# EAGLE library part MICROSDCARDWRITER (library Arduino-MITCH_Breakouts)
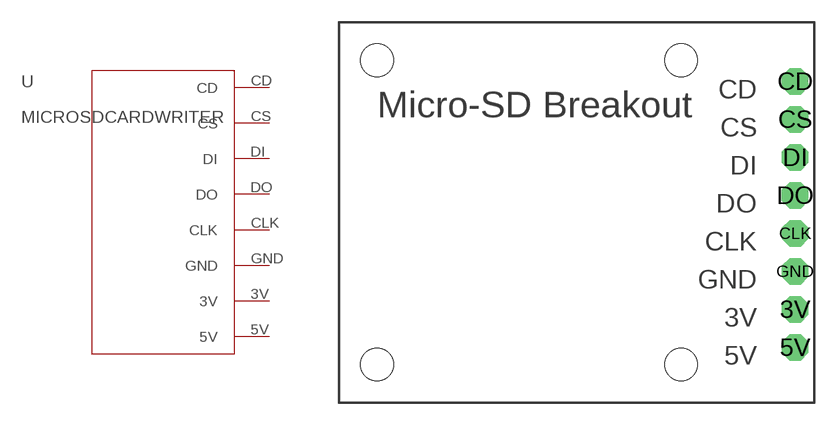
[diagram p4: symbol with the pads of MICROSDCARDWRITER; footprint MICROSDCARDWRITER]

Designator prefix -

## MICROSDCARDWRITER  [MICROSDCARDWRITER]
3V  3V
5V  5V
CD  CD
CLK  CLK
CS  CS
DI  DI
DO  DO
GND  GND

## Footprint MICROSDCARDWRITER (pad centres in mm)
drill 1.016 pad 1.778 octagon: 3V 30.48,6.223; 5V 30.48,3.683; CD 30.48,21.463; CLK 30.48,11.303; CS 30.48,18.923; DI 30.48,16.383; DO 30.48,13.843; GND 30.48,8.763
hole 2.2 at 22.86,22.86
hole 2.2 at 2.54,22.86
hole 2.2 at 2.54,2.54
hole 2.2 at 22.86,2.54